# Altium schematic symbol library 220uF_CAP.SCHLIB: 1 symbol
Pins are listed as number, name and electrical type; pins without a type are passive.

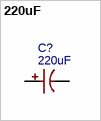
[diagram p0: symbol 220uF]

## 220uF
designator C?
Manufacturer: CX(承兴); Manufacturer Part: KM227M016E11RR0VH2FP0; nameAlias: Value; Supplier: LCSC; Supplier Part: C43349; JLCPCB Part Class: Extended Part; spicePre: C; spiceSymbolName: 220uF 16V 6.3*11
footprint CAP-TH_BD6.3-P2.50-D1.0-FD
pins: 1, 2